# Altium schematic symbol library MCU_Microchip_SAMA.SchLib: 1 symbol
Pins are listed as number, name and electrical type; pins without a type are passive.

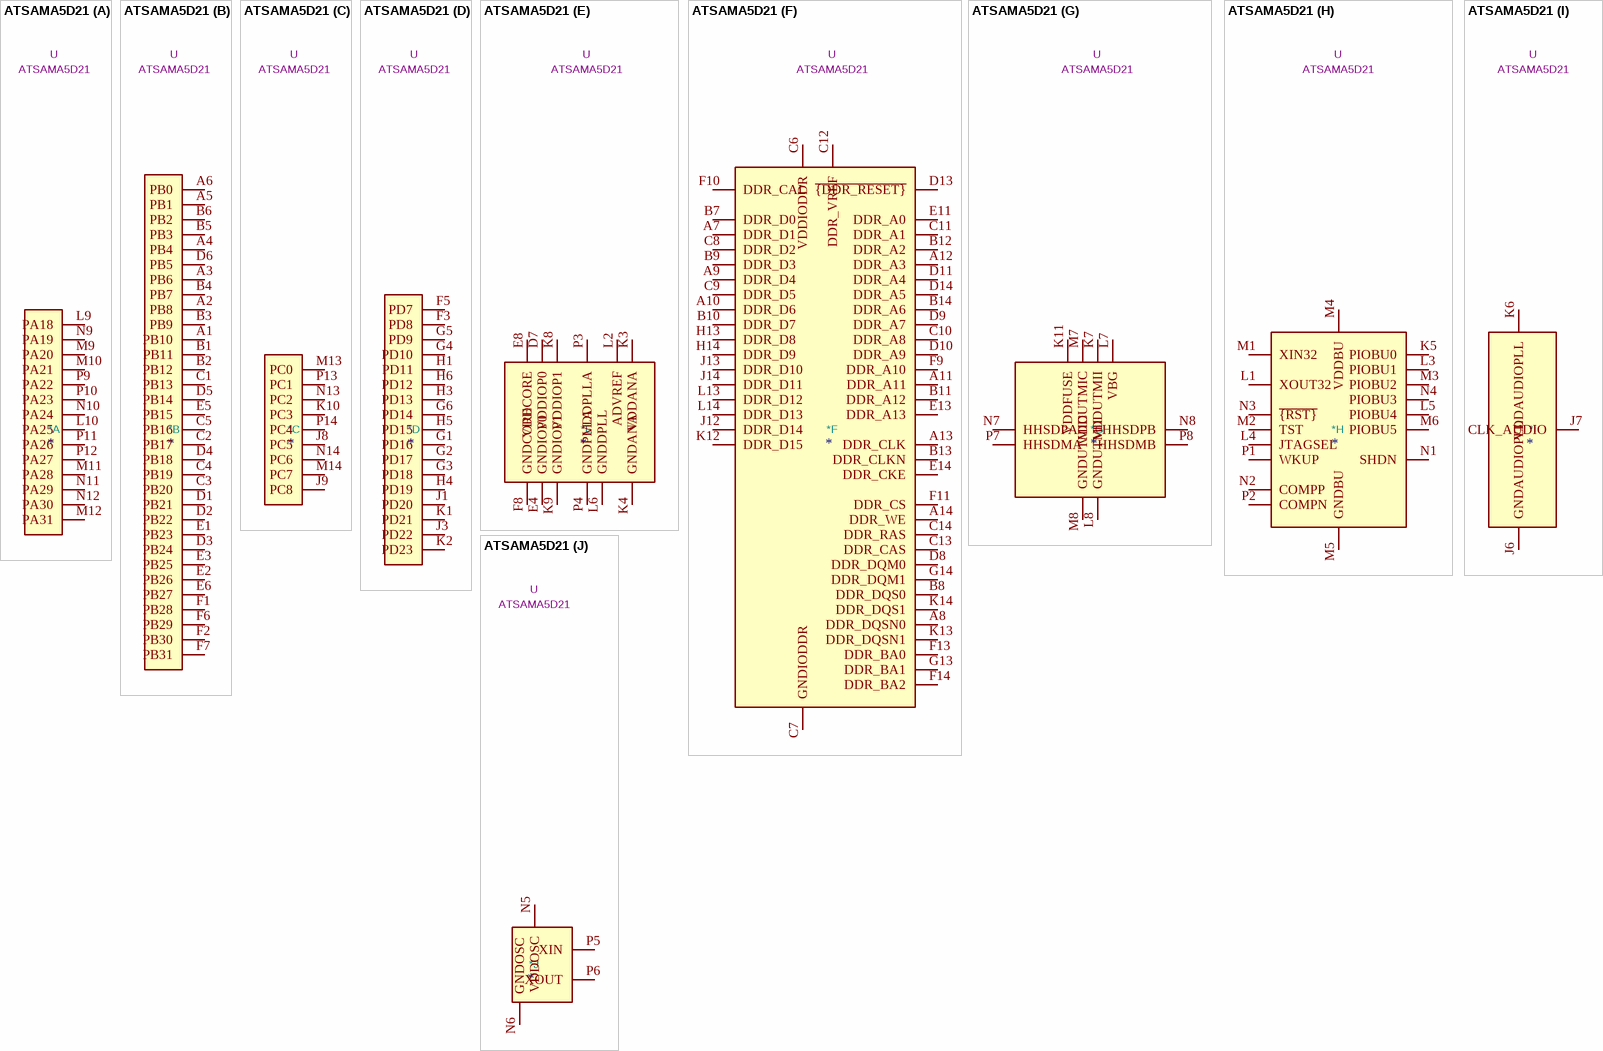
[diagram p0: symbol ATSAMA5D21]

## ATSAMA5D21
designator *  value ATSAMA5D21  Reference: U
ki_keywords: MPU Cortex-A5 Cortex A5 Linux DDR DRAM BGA; ki_description: ARM Cortex-A5 MPU, 500 MHz max, 1x SDIO/SD-CARD/eMMC/QSPI memory, 128 kB SRAM, 16-bit bus DDR2/DDR3 RAM, 1.1-1.32 V, 72 GPIO, TFBGA-196; ki_fp_filters: Microchip*TFBGA*11x11mm*P0.75mm*; Footprint: Package_BGA:Microchip_TFBGA-196_11x11mm_Layout14x14_P0.75mm_SMD; Datasheet: http://ww1.microchip.com/downloads/en/DeviceDoc/SAMA5D2-Series-Data-Sheet-DS60001476C.pdf
part A pins: L9 PA18, L10 PA25, M9 PA20, M10 PA21, M11 PA28, M12 PA31, N9 PA19, N10 PA24, N11 PA29, N12 PA30, P9 PA22, P10 PA23, P11 PA26, P12 PA27
part B pins: A1 PB10, A2 PB8, A3 PB6, A4 PB4, A5 PB1, A6 PB0, B1 PB11, B2 PB12, B3 PB9, B4 PB7, B5 PB3, B6 PB2, C1 PB13, C2 PB17, C3 PB20, C4 PB19, C5 PB16, D1 PB21, D2 PB22, D3 PB24, D4 PB18, D5 PB14, D6 PB5, E1 PB23, E2 PB26, E3 PB25, E5 PB15, E6 PB27, F1 PB28, F2 PB30, F6 PB29, F7 PB31
part C pins: J8 PC5, J9 PC8, K10 PC3, M13 PC0, M14 PC7, N13 PC2, N14 PC6, P13 PC1, P14 PC4
part D pins: F3 PD8, F5 PD7, G1 PD16, G2 PD17, G3 PD18, G4 PD10, G5 PD9, G6 PD14, H1 PD11, H3 PD13, H4 PD19, H5 PD15, H6 PD12, J1 PD20, J3 PD22, K1 PD21, K2 PD23
part E pins: D7 VDDIOP0, E4 GNDIOP0, E7 GNDIOP0 hidden, E8 VDDCORE, F4 VDDIOP0 hidden, F8 GNDCORE, G7 GNDCORE hidden, G8 VDDCORE hidden, G9 GNDCORE hidden, H2 VDDANA hidden, H7 GNDCORE hidden, H8 VDDCORE hidden, H9 VDDCORE hidden, J2 GNDANA hidden, J4 GNDCORE hidden, J5 VDDCORE hidden, K3 VDDANA, K4 GNDANA, K8 VDDIOP1, K9 GNDIOP1, L2 ADVREF, L6 GNDDPLL, L11 VDDIOP1 hidden, L12 GNDIOP1 hidden, P3 VDDPLLA, P4 GNDPLLA
part F pins: A7 DDR_D1, A8 DDR_DQSN0, A9 DDR_D4, A10 DDR_D6, A11 DDR_A11, A12 DDR_A3, A13 DDR_CLK, A14 DDR_WE, B7 DDR_D0, B8 DDR_DQS0, B9 DDR_D3, B10 DDR_D7, B11 DDR_A12, B12 DDR_A2, B13 DDR_CLKN, B14 DDR_A6, C6 VDDIODDR, C7 GNDIODDR, C8 DDR_D2, C9 DDR_D5, C10 DDR_A8, C11 DDR_A1, C12 DDR_VREF, C13 DDR_CAS, C14 DDR_RAS, D8 DDR_DQM0, D9 DDR_A7, D10 DDR_A9, D11 DDR_A4, D12 GNDIODDR hidden, D13 ~{{DDR_RESET}}, D14 DDR_A5, E9 GNDIODDR hidden, E10 VDDIODDR hidden, E11 DDR_A0, E12 VDDIODDR hidden, E13 DDR_A13, E14 DDR_CKE, F9 DDR_A10, F10 DDR_CAL, F11 DDR_CS, F12 GNDIODDR hidden, F13 DDR_BA0, F14 DDR_BA2, G10 VDDIODDR hidden, G11 GNDIODDR hidden, G12 VDDIODDR hidden, G13 DDR_BA1, G14 DDR_DQM1, H10 GNDIODDR hidden, H11 VDDIODDR hidden, H12 DDR_VREF hidden, H13 DDR_D8, H14 DDR_D9, J10 VDDIODDR hidden, J11 GNDIODDR hidden, J12 DDR_D14, J13 DDR_D10, J14 DDR_D11, K12 DDR_D15, K13 DDR_DQSN1, K14 DDR_DQS1, L13 DDR_D12, L14 DDR_D13
part G pins: K7 VDDUTMII, K11 VDDFUSE, L7 VBG, L8 GNDUTMII, M7 VDDUTMIC, M8 GNDUTMIC, N7 HHSDPA, N8 HHSDPB, P7 HHSDMA, P8 HHSDMB
part H pins: K5 PIOBU0, L1 XOUT32, L3 PIOBU1, L4 JTAGSEL, L5 PIOBU4, M1 XIN32, M2 TST, M3 PIOBU2, M4 VDDBU, M5 GNDBU, M6 PIOBU5, N1 SHDN, N2 COMPP, N3 ~{{RST}}, N4 PIOBU3, P1 WKUP, P2 COMPN
part I pins: J6 GNDAUDIOPLL, J7 CLK_AUDIO, K6 VDDAUDIOPLL
part J pins: N5 VDDOSC, N6 GNDOSC, P5 XIN, P6 XOUT